# Altium integrated library 0525590652.IntLib: 1 symbol
Pins are listed as number, name and electrical type; pins without a type are passive.

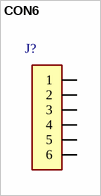
[diagram p0: symbol CON6]

## CON6
designator J?, comment 0525590652  (value not drawn)
ID: 0525590652; PDF: http://www.molex.com/pdm_docs/sd/525590652_sd.pdf; PRICE: 1.56000; BUY_LINK: http://www.digikey.com/product-detail/en/0525590652/WM7982CT-ND/2074171
footprint 0525590652
pins: 1, 2, 3, 4, 5, 6